# Altium footprint library MBRM120LT3G.PcbLib: 1 footprints
Each footprint in its own frame and in the unit in brackets; x right, y up, seen from the top. Pads: shape width x height; smd on the part's side, far side on the other; paste and mask are expansions set on the pad; w line width, h text height; cw(c..) or ccw(c..) is an arc to the next point about the centre after c.
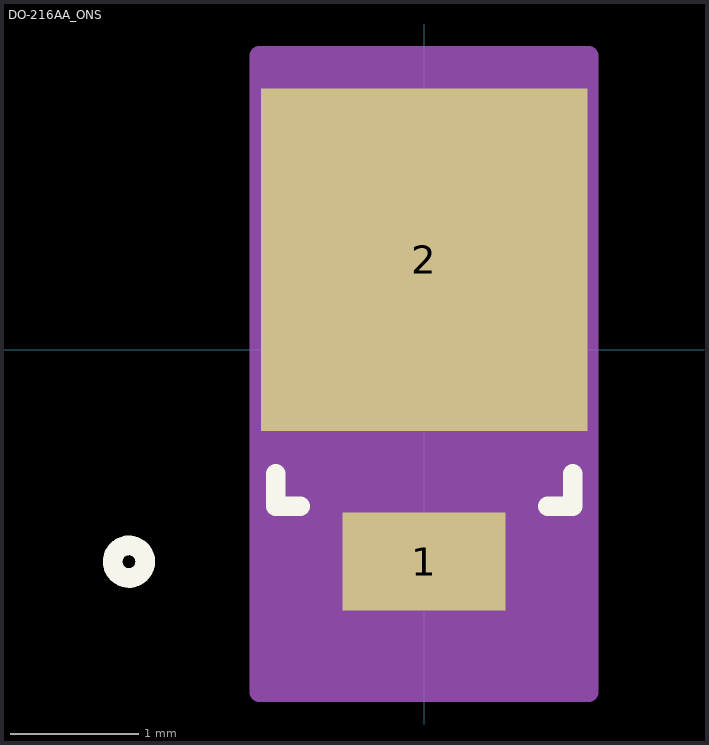
[diagram p0: the footprint, top view; thin cyan lines are the x and y axes]

## DO-216AA_ONS [mil]
pads (2):
  rect 50x30 smd paste+0 mask+0: 1(0,-65.03)
  rect 100x105 smd paste+0 mask+0: 2(0,27.53)
Top Overlay:
  circle w6: c-90.5,-65.03 r5
  lines w6: -45.5,-38.07 -45.5,-48 -37.94,-48 ; 37.94,-48 45.5,-48 45.5,-38.07
Mechanical 13:
  circle w0: c-20.5,-65.03 r5
  lines w1: -40.5,-43 40.5,-43 40.5,43 -40.5,43 -40.5,-43
Mechanical 15:
  region: 50.5,-105.03 -50.5,-105.03 -50.5,90.03 50.5,90.03
  lines w6: -50.5,-105.03 -50.5,90.03 50.5,90.03 50.5,-105.03 -50.5,-105.03